# EAGLE library part PY32F040_64P (library kxn_Standard_MCU)
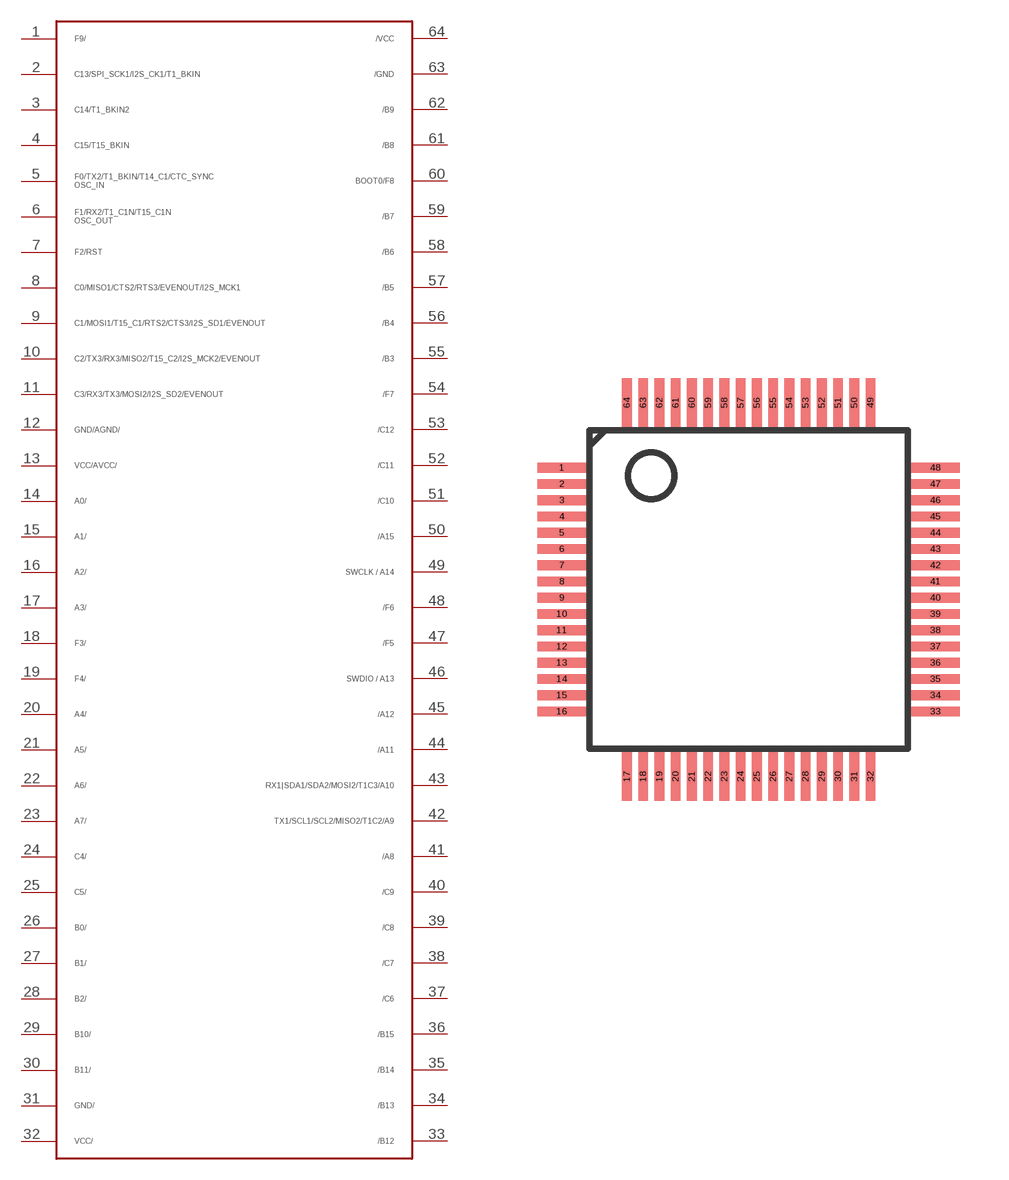
[diagram p14: symbol with the pads of LQFP64S_STC; footprint LQFP64S_STC]

Designator prefix -

## PY32F040_64P_LQFP64  [LQFP64S_STC]
1  P$1_F9
2  P$2_C13
3  P$3_C14
4  P$4_C15
5  P$5_F0
6  P$6_F1
7  P$7_F2
8  P$8_C0
9  P$9_C1
10  P$10_C2
11  P$11_C3
12  P$12_GND/AGND
13  P$13_VCC/AVCC
14  P$14_A0
15  P$15_A1
16  P$16_A2
17  P$17_A3
18  P$18_F3
19  P$19_F4  pwr
20  P$20_A4  pwr
21  P$21_A5  sup
22  P$22_A6
23  P$23_A7
24  P$24_C4
25  P$25_C5
26  P$26_B0
27  P$27_B1
28  P$28_B2
29  P$29_B10
30  P$30_B11
31  P$31_GND
32  P$32_VCC
33  P$33_B12
34  P$34_B13
35  P$35_B14
36  P$36_B15
37  P$37_C6
38  P$38_C7
39  P$39_C8
40  P$40_C9
41  P$41_A8
42  P$42_A9
43  P$43_A10
44  P$44_A11
45  P$45_A12
46  P$46_A13
47  P$47_F5
48  P$48_F6
49  P$49_A14
50  P$50_A15
51  P$51_C10
52  P$52_C11
53  P$53_C12
54  P$54_F7
55  P$55_B3
56  P$56_B4
57  P$57_B5
58  P$58_B6
59  P$59_B7
60  P$60_F8
61  P$61_B8
62  P$62_B9
63  P$63_GND
64  P$64_VCC

## Footprint LQFP64S_STC (pad centres in mm)
LQFP64S_STC Auto generated by make-symbol-device-package-bsdl.ulp Rev. 44 https://datasheet.lcsc.com/lcsc/2212021230_STC-Micro-STC8H8K64U-45I-LQFP64_C3013146.pdf 4.10 LQFP64S ... (12mm*12mm) dPin: 0.5mm
smd 1.5 x 0.3: 1 -5.75,3.75; 2 -5.75,3.25; 3 -5.75,2.75; 4 -5.75,2.25; 5 -5.75,1.75; 6 -5.75,1.25; 7 -5.75,0.75; 8 -5.75,0.25; 9 -5.75,-0.25; 10 -5.75,-0.75; 11 -5.75,-1.25; 12 -5.75,-1.75; 13 -5.75,-2.25; 14 -5.75,-2.75; 15 -5.75,-3.25; 16 -5.75,-3.75; 33 5.75,-3.75; 34 5.75,-3.25; 35 5.75,-2.75; 36 5.75,-2.25; 37 5.75,-1.75; 38 5.75,-1.25; 39 5.75,-0.75; 40 5.75,-0.25; 41 5.75,0.25; 42 5.75,0.75; 43 5.75,1.25; 44 5.75,1.75; 45 5.75,2.25; 46 5.75,2.75; 47 5.75,3.25; 48 5.75,3.75
smd 0.3 x 1.5: 17 -3.75,-5.75; 18 -3.25,-5.75; 19 -2.75,-5.75; 20 -2.25,-5.75; 21 -1.75,-5.75; 22 -1.25,-5.75; 23 -0.75,-5.75; 24 -0.25,-5.75; 25 0.25,-5.75; 26 0.75,-5.75; 27 1.25,-5.75; 28 1.75,-5.75; 29 2.25,-5.75; 30 2.75,-5.75; 31 3.25,-5.75; 32 3.75,-5.75; 49 3.75,5.75; 50 3.25,5.75; 51 2.75,5.75; 52 2.25,5.75; 53 1.75,5.75; 54 1.25,5.75; 55 0.75,5.75; 56 0.25,5.75; 57 -0.25,5.75; 58 -0.75,5.75; 59 -1.25,5.75; 60 -1.75,5.75; 61 -2.25,5.75; 62 -2.75,5.75; 63 -3.25,5.75; 64 -3.75,5.75